# Altium schematic symbol library BAT54C.SchLib: 1 symbol
Pins are listed as number, name and electrical type; pins without a type are passive.

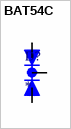
[diagram p0: symbol BAT54C]

## BAT54C
designator D?
<p><b>BAT54C Schottky Diodes (Common Cathode)</b></p> 30V 200mA, SOT-23 Package <p>Digikey: BAT54CFSCT-ND</p>; MP: BAT54C; Package: None; Price: None; Availability: Unavailable; Value: *
footprint SOT23-R
pins: 1 A1, 2 A2, 3 C